# Altium schematic symbol library MS5611.SchLib: 1 symbol
Pins are listed as number, name and electrical type; pins without a type are passive.

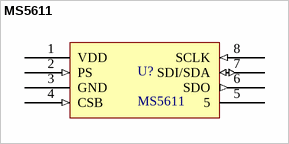
[diagram p0: symbol MS5611]

## MS5611
designator U?
Barometric Pressure Sensor, with stainless steel cap
footprint MS5611-2 (MS5611)
pins: 1 VDD (power), 2 PS (in), 3 GND (power), 4 CSB (in), 5, 6 SDO (out), 7 SDI/SDA (io), 8 SCLK (in)